# EAGLE library part FDY1002PZ (library custom-devices)
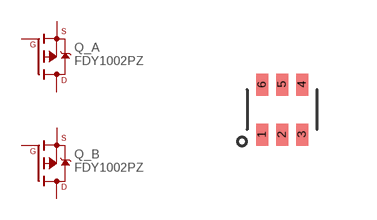
[diagram p39: symbol with the pads of SC89-6; footprint SC89-6]

Designator prefix Q; gates _A=MOSFET-P _B=MOSFET-P

## FDY1002PZ  [SC89-6]
1  _A:S  pas
2  _A:G  pas
3  _B:D  pas
4  _B:S  pas
5  _B:G  pas
6  _A:D  pas

## Footprint SC89-6 (pad centres in mm)
smd 0.3 x 0.55: 1 -0.5,-0.625; 2 0,-0.625; 3 0.5,-0.625; 4 0.5,0.625; 5 0,0.625; 6 -0.5,0.625